# Altium schematic symbol library Connectors.SchLib: 75 symbols (part 2 of 3)
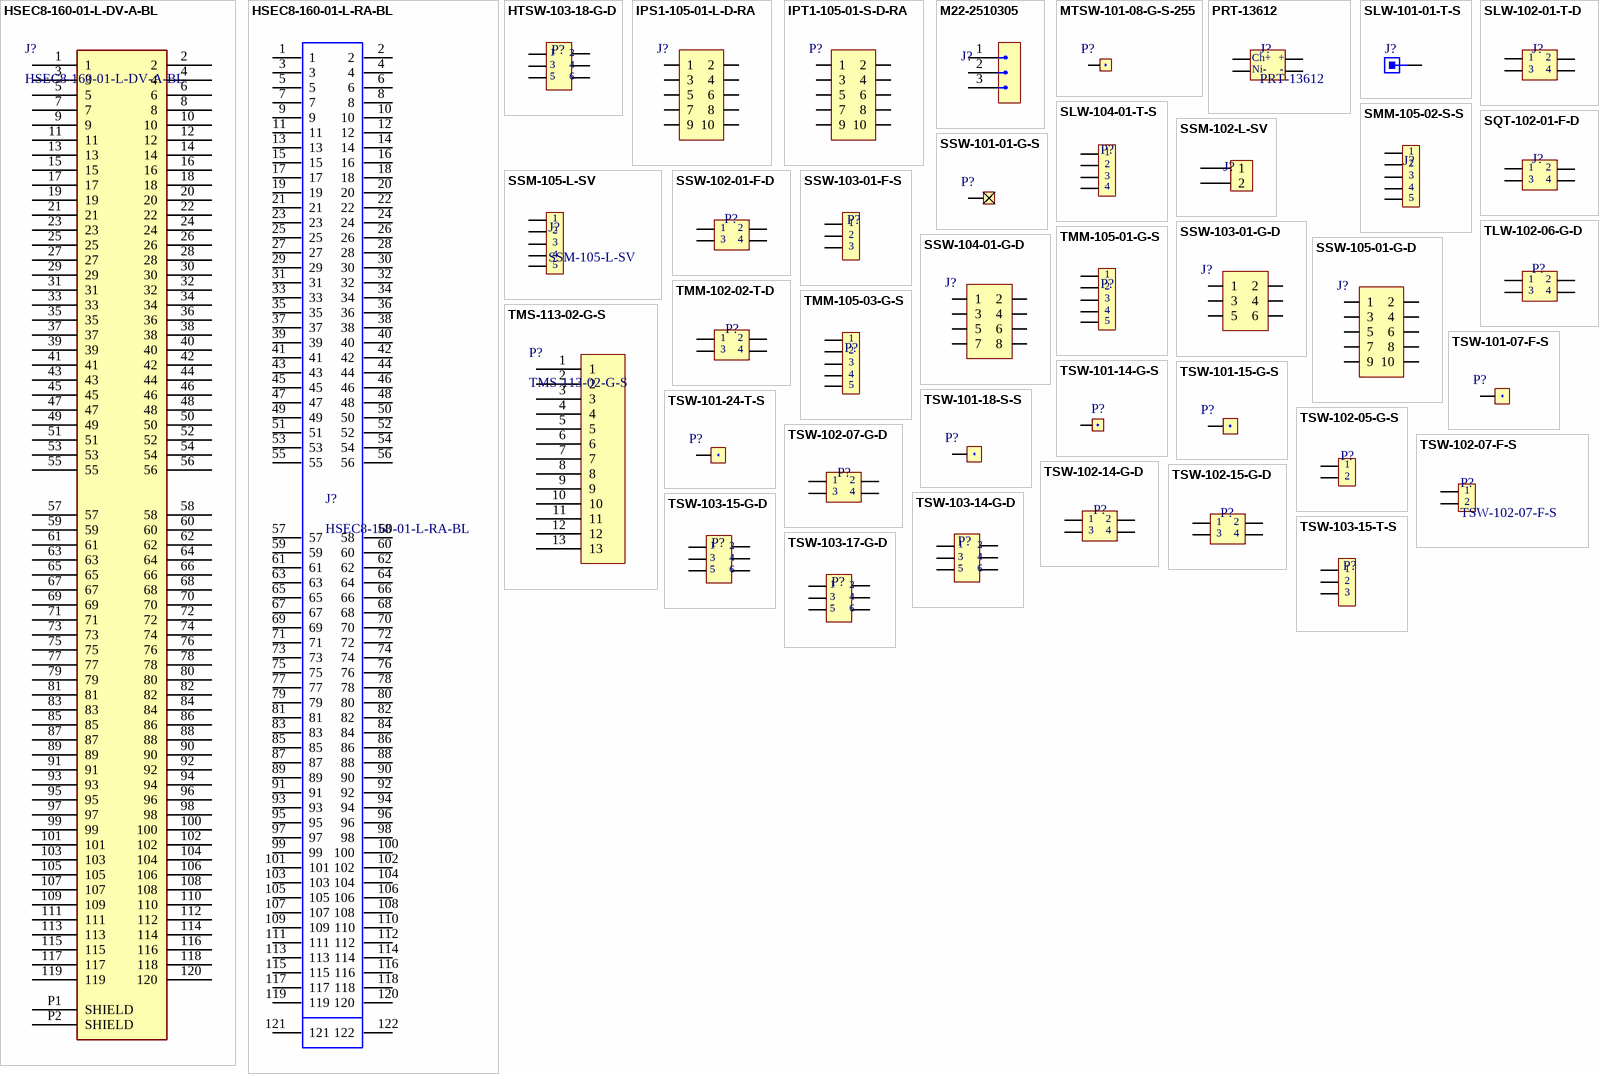
[diagram p3: symbols HSEC8-160-01-L-DV-A-BL to TSW-103-17-G-D]

## HSEC8-160-01-L-RA-BL
designator J?
Standard Card Edge Connectors 0.80 mm Edge Rate High-Speed Edge Card Connector, Vertical; Manufacturer: Samtec; Number of Contacts: 120; Pitch: 0.8mm; Supplier 1: Digi-Key; Manufacturer Part Number: HSEC8-160-01-L-RA-BL; RoHS: Yes; Category: Card Edge Connectors; Stock 1: 48; Pricing 1: 1=13.09000, 10=11.90000, 25=11.60240, 50=10.71000, 100=10.11500, 250=9.22252, 500=8.62750, 1000=7.91350, 2500=7.73500 (USD); Mount: Surface Mount; Contact Plating: Gold; Number of Rows: 2; Termination: Solder; Packaging: Bulk; Radiation Hardening: No; ComponentLink1URL: https://datasheet.ciiva.com/10927/hsec8-ra-10927470.pdf?src-supplier=Avnet; ComponentLink1Description: https://datasheet.ciiva.com/10927/hsec8-ra-10927470.pdf?src-supplier=Avnet; Supplier Part Number 1: SAM13312-ND
footprint HSEC8-160-01-L-RA-BL (CONN EDGE DUAL FMALE 120P 0.031)
pins: 1, 2, 3, 4, 5, 6, 7, 8, 9, 10, 11, 12, 13, 14, 15, 16, 17, 18, 19, 20, 21, 22, 23, 24, 25, 26, 27, 28, 29, 30, 31, 32, 33, 34, 35, 36, 37, 38, 39, 40, 41, 42, 43, 44, 45, 46, 47, 48, 49, 50, 51, 52, 53, 54, 55, 56, 57, 58, 59, 60, 61, 62, 63, 64, 65, 66, 67, 68, 69, 70, 71, 72, 73, 74, 75, 76, 77, 78, 79, 80, 81, 82, 83, 84, 85, 86, 87, 88, 89, 90, 91, 92, 93, 94, 95, 96, 97, 98, 99, 100, 101, 102, 103, 104, 105, 106, 107, 108, 109, 110, 111, 112, 113, 114, 115, 116, 117, 118, 119, 120, 121, 122

## HTSW-103-18-G-D
designator P?  (value not drawn)
SAMTEC         HTSW-103-18-G-D             Board-To-Board Connector, Vertical, HTSW Series, 6 Contacts, Header, 2.54 mm, Through Hole, 2 Rows; Number of Contacts: 6; Gender: Male; Pitch: 2.54mm; Supplier 1: Digi-Key; Manufacturer: Samtec; Manufacturer Part Number: HTSW-103-18-G-D; RoHS: Yes; Category: Headers and Wire Housings; Stock 1: 384; Pricing 1: 1=0.99000, 10=0.86700, 100=0.74800, 500=0.61200, 1000=0.54400, 5000=0.47600, 10000=0.45220 (USD); Mount: Through Hole; Contact Plating: Gold; Contact Material: Bronze; Termination: Through Hole; Number of Rows: 2; Packaging: Bulk; Radiation Hardening: No; REACH SVHC: No SVHC; ComponentLink1URL: https://datasheet.ciiva.com/10206/htsw-th-10206653.pdf?src-supplier=Avnet; ComponentLink1Description: https://datasheet.ciiva.com/10206/htsw-th-10206653.pdf?src-supplier=Avnet; Supplier Part Number 1: HTSW-103-18-G-D-ND
footprint HTSW-103-18-G-D
pins: 1, 2, 3, 4, 5, 6

## IPS1-105-01-L-D-RA
designator J?  (value not drawn)
SAMTEC         IPS1-105-01-L-D-RA             Board-To-Board Connector, Right Angle, IPS1 Series, 10 Contacts, Receptacle, 2.54 mm, Through Hole; Number of Contacts: 10; Number of Ports: 1; Max Voltage Rating (AC): 550V; Current Rating: 9A; Voltage Rating: 777V; Pitch: 2.54mm; Supplier 1: Digi-Key; Manufacturer: Samtec; Manufacturer Part Number: IPS1-105-01-L-D-RA; RoHS: Yes; Category: Connectors; Stock 1: 364; Pricing 1: 1=2.75000, 10=2.64000, 100=2.20000, 500=1.87000, 1000=1.59500, 5000=1.43000 (USD); Mount: Through Hole,Surface Mount; Number of Terminals: 10; Contact Material: Bronze; Contact Plating: Gold; Housing Material: Polymer; Min Operating Temperature: -55°C; Max Operating Temperature: 125°C; Termination: Solder; Orientation: Right Angle; Packaging: Bulk; Gender: Receptacle; Number of Rows: 2; Length: 13.08mm; Depth: 8.51mm; Radiation Hardening: No; REACH SVHC: No SVHC; ComponentLink1URL: https://datasheet.ciiva.com/25618/0900766b8114c2ed-25618027.pdf?src-supplier=RSComponents; ComponentLink1Description: https://datasheet.ciiva.com/25618/0900766b8114c2ed-25618027.pdf?src-supplier=RSComponents; ComponentLink2URL: https://datasheet.ciiva.com/9444/ipt1-9444586.pdf?src-supplier=Avnet; ComponentLink2Description: https://datasheet.ciiva.com/9444/ipt1-9444586.pdf?src-supplier=Avnet; Supplier Part Number 1: SAM9620-ND
footprint IPS1-105-01-L-D-RA
pins: 1, 2, 3, 4, 5, 6, 7, 8, 9, 10

## IPT1-105-01-S-D-RA
designator P?  (value not drawn)
CONN PLUG .100" 10POS DL PCB R/A; Manufacturer: Samtec; Number of Contacts: 10; Gender: Male; Connector Type: Male Pin; Number of Ports: 1; Max Voltage Rating (AC): 550V; Max Current Rating: 8A; Pitch: 2.54mm; Row Spacing: 0.1inch; Supplier 1: Digi-Key; Manufacturer Part Number: IPT1-105-01-S-D-RA; RoHS: Yes; Category: Connectors; Stock 1: 449; Pricing 1: 1=3.53000, 10=3.38400, 100=2.82000, 500=2.39700, 1000=2.04450, 5000=1.83300 (USD); Mount: Through Hole; Contact Material: Bronze; Contact Plating: Gold; Housing Material: Polymer; Number of Terminals: 10; Housing Color: Black; Color: Black; Min Operating Temperature: -55°C; Max Operating Temperature: 125°C; Termination: Solder; Orientation: Right Angle; Packaging: Rail/Tube; Number of Rows: 2; Number of Positions: 10; Length: 13.21mm; Depth: 10.39mm; Contact Mating Length: 0.155inch; Radiation Hardening: No; REACH SVHC: No SVHC; Lead Free: Lead Free; ComponentLink1URL: https://datasheet.ciiva.com/716/ipt1-1xx-xx-xx-d-ra-xxx-mkt-716221.pdf?src-supplier=Digi-Key; ComponentLink1Description: https://datasheet.ciiva.com/716/ipt1-1xx-xx-xx-d-ra-xxx-mkt-716221.pdf?src-supplier=Digi-Key; ComponentLink2URL: https://datasheet.ciiva.com/7997/81376-7997581.pdf?src-supplier=Element14; ComponentLink2Description: https://datasheet.ciiva.com/7997/81376-7997581.pdf?src-supplier=Element14; ComponentLink3URL: https://datasheet.ciiva.com/9444/ipt1-9444638.pdf?src-supplier=Avnet; ComponentLink3Description: https://datasheet.ciiva.com/9444/ipt1-9444638.pdf?src-supplier=Avnet; Supplier Part Number 1: SAM8101-ND
footprint IPT1-105-01-S-D-RA
pins: 1, 2, 3, 4, 5, 6, 7, 8, 9, 10

## M22-2510305
designator J?  (value not drawn)
HARWIN - M22-2510305 - Board-To-Board Connector, 2 mm, 3 Contacts, Header, M22 Series, Through Hole, 1 Rows; Number of Positions: 3; Connector Type: Male Pin; Current Rating: 1A; Voltage Rating: 650V; Contact Resistance: 20mR; Gender: Male; Pitch: 2mm; Supplier 1: Digi-Key; Manufacturer: Harwin; Manufacturer Part Number: M22-2510305; RoHS: Yes; Category: Headers and Wire Housings; Stock 1: 1905; Pricing 1: 1=0.24000, 10=0.22900, 100=0.15860, 500=0.13420, 1000=0.10980, 5000=0.09760, 10000=0.08845 (USD); Mount: Through Hole; Case/Package: SIL; Housing Material: Nylon; Color: Black; Contact Plating: Gold; Contact Material: Bronze; Housing Color: Black; Min Operating Temperature: -55°C; Max Operating Temperature: 105°C; Termination: Solder; Number of Contacts: 3; Package Quantity: 1000; Number of Rows: 1; Packaging: Bulk; Max Current Rating: 1A; Orientation: Straight; Length: 6mm; Contact Mating Length: 0.138inch; Depth: 2mm; Radiation Hardening: No; REACH SVHC: No SVHC; ComponentLink1URL: https://datasheet.ciiva.com/733/m22-251-733936.pdf?src-supplier=Digi-Key; ComponentLink1Description: https://datasheet.ciiva.com/733/m22-251-733936.pdf?src-supplier=Digi-Key; ComponentLink2URL: https://datasheet.ciiva.com/16736/m22-251-16736245.pdf?src-supplier=Avnet+Europe; ComponentLink2Description: https://datasheet.ciiva.com/16736/m22-251-16736245.pdf?src-supplier=Avnet+Europe; ComponentLink3URL: https://datasheet.ciiva.com/22660/1693770-22660551.pdf?src-supplier=Element14; ComponentLink3Description: https://datasheet.ciiva.com/22660/1693770-22660551.pdf?src-supplier=Element14; ComponentLink4URL: https://datasheet.ciiva.com/9480/m22-251-9480330.pdf?src-supplier=Avnet; ComponentLink4Description: https://datasheet.ciiva.com/9480/m22-251-9480330.pdf?src-supplier=Avnet; Supplier Part Number 1: 952-1312-ND
footprint M22-2510305 (3 Pos. Male SIL Vertical Throughboard Conn.)
pins: 1 (power), 2 (power), 3 (power)

## MTSW-101-08-G-S-255
designator P?  (value not drawn)
.100" Variable Post Height Terminal Strip; Manufacturer: Samtec; Number of Contacts: 1; Gender: Male; System: Connector; Supplier 1: Digi-Key; Manufacturer Part Number: MTSW-101-08-G-S-255; RoHS: Yes; Category: Connectors; Stock 1: 889; Pricing 1: 1=0.16000 (USD); Mount: Through Hole; Contact Plating: Gold; Contact Material: Bronze; Termination: Solder; Number of Rows: 1; Packaging: Bulk; Radiation Hardening: No; Lead Free: Lead Free; ComponentLink1URL: http://www.samtec.com/documents/webfiles/pdf/HMTSW.PDF?src-supplier=Avnet; ComponentLink1Description: http://www.samtec.com/documents/webfiles/pdf/HMTSW.PDF?src-supplier=Avnet; Supplier Part Number 1: MTSW-101-08-G-S-255-ND; Supplier 2: Mouser; Supplier 3: Avnet; Pricing 3: 1=0.08455, 10=0.07956, 30=0.07748, 50=0.07384, 100=0.07072 (USD); Supplier Part Number 2: 200-MTSW10108GS255; Supplier Part Number 3: MTSW-101-08-G-S-255
footprint MTSW-101-08-G-S-255
pins: 1

## PRT-13612
designator J?
THERMOCOUPLE CONN - PCC-SMP-K; Manufacturer: SparkFun; Supplier 1: Digi-Key; Manufacturer Part Number: PRT-13612; RoHS: No; Stock 1: 201; Pricing 1: 1=4.38000 (USD); ComponentLink1URL: https://cdn.sparkfun.com/datasheets/Prototyping/PCC-SMP-K-datasheet.pdf?src-supplier=Digi-Key; ComponentLink1Description: https://cdn.sparkfun.com/datasheets/Prototyping/PCC-SMP-K-datasheet.pdf?src-supplier=Digi-Key; Supplier Part Number 1: 1568-1306-ND; Supplier 2: Mouser; Stock 2: 10; Pricing 2: 1=4.38000, 5=4.38000 (USD); Supplier 3: Arrow; Pricing 3: 1=4.11100 (USD); Supplier Part Number 2: 474-PRT-13612; Supplier Part Number 3: PRT-13612
footprint PRT-13612 (THERMOCOUPLE CONN - PCC-SMP-K)
pins: 1, 2, 3, 4
text: Ch+; +; Ni-; -

## SLW-101-01-T-S
designator J?  (value not drawn)
CONN RCPT .100" 1POS SNGL TIN low profile 2.92 mm SAMTEC; Connector Type: Receptacle; Number of Positions: 1; Voltage Rating (AC): 550V; System: Connector; Manufacturer: Samtec; Manufacturer Part Number: SLW-101-01-T-S; RoHS: Yes; Category: Connectors; Stock 1: 1988; Pricing 1: 1=0,16000, 10=0,15300, 25=0,11440, 50=0,09800, 100=0,09470, 250=0,08160, 500=0,07834 (USD); Mount: Through Hole; Housing Material: Plastic; Color: Black; Contact Plating: Tin; Contact Material: Bronze; Housing Color: Black; Number of Rows: 1; Packaging: Bulk; Termination: Solder; Number of Contacts: 1; Gender: Receptacle; Package Quantity: 1; Length: 2.54mm; Height: 4.57mm; Width: 2.54mm; Radiation Hardening: No; Lead Free: Lead Free; REACH SVHC: No SVHC; ComponentLink1URL: https://datasheet.ciiva.com/413/slw-mkt-413333.pdf?src-supplier=Digi-Key; ComponentLink1Description: https://datasheet.ciiva.com/413/slw-mkt-413333.pdf?src-supplier=Digi-Key; Supplier 1: Digi-Key; Supplier 2: Mouser; Supplier 3: Arrow; Termination post length: 2.92 mm; Supplier Part Number 2: 200-SLW10101TS; Supplier Part Number 3: SLW-101-01-T-S; Supplier Part Number 1: SAM1093-01-ND
footprint SLW-101-01-T-S (Headers & Wire Housings .100" Tiger Buy Low Profile Socket Strip)
pins: 1

## SLW-102-01-T-D
designator J?  (value not drawn)
SOCKET, 2.54MM, 2X2 POSITION; Product Range:SLW Series; Contact Termination Type:Through Hole; Gender:Receptacle; No. of Contacts:4; Pitch Spacing:2.54mm; Contact Plating:Tin Plated Contacts; Contact Material:Phosphor Bronze ;RoHS Compliant: Yes; Manufacturer: Samtec; Number of Contacts: 4; Contact Resistance: 10mR; Max Current Rating: 7.1A; Max Voltage Rating (AC): 550V; Row Spacing: 0.1inch; Supplier 1: Digi-Key; Manufacturer Part Number: SLW-102-01-T-D; RoHS: Yes; Category: Connectors; Stock 1: 280; Pricing 1: 1=0.42000, 10=0.39200, 25=0.35240, 50=0.31340, 100=0.30030, 250=0.27416, 500=0.26112 (USD); Mount: Through Hole; Contact Plating: Tin; Housing Color: Black; Housing Material: Polyester; Contact Material: Bronze; Color: Black; Min Operating Temperature: -55°C; Max Operating Temperature: 105°C; Termination: Solder; Number of Rows: 2; Orientation: Straight; Connector Type: Receptacle; Number of Positions: 4; Gender: Receptacle; Package Quantity: 1; Packaging: Bulk; Voltage Rating (AC): 550V; Length: 5.08mm; Pitch: 2.54mm; Width: 4.95mm; Depth: 4.95mm; Radiation Hardening: No; Lead Free: Lead Free; REACH SVHC: No SVHC; ComponentLink1URL: https://datasheet.ciiva.com/413/slw-mkt-413382.pdf?src-supplier=Digi-Key; ComponentLink1Description: https://datasheet.ciiva.com/413/slw-mkt-413382.pdf?src-supplier=Digi-Key; Supplier Part Number 1: SAM1092-02-ND; Supplier 2: Arrow; Stock 2: 10; Pricing 2: 1=0.27850, 10=0.24770, 25=0.24520, 50=0.24290, 100=0.23130, 250=0.22030, 500=0.20160 (USD); Supplier 3: Mouser; Stock 3: 800; Pricing 3: 1=0.43000, 10=0.32600, 100=0.28500, 500=0.27200, 1000=0.22400, 2500=0.19700 (USD); Supplier Part Number 2: SLW-102-01-T-D; Supplier Part Number 3: 200-SLW10201TD
footprint SLW-102-01-T-D
pins: 1, 2, 3, 4

## SLW-104-01-T-S
designator P?  (value not drawn)
Conn Socket Strip SKT 4 POS 2.54mm Solder ST Thru-Hole; Manufacturer: Samtec; Max Current Rating: 7.1A; Connector Type: Receptacle; Number of Positions: 4; Max Voltage Rating (AC): 550V; Contact Resistance: 10mR; System: Connector; Supplier 1: Digi-Key; Manufacturer Part Number: SLW-104-01-T-S; RoHS: Yes; Category: Connectors; Stock 1: 1989; Pricing 1: 1=0.42000, 10=0.39200, 25=0.35240, 50=0.31340, 100=0.30030, 250=0.27416, 500=0.26112 (USD); Mount: Through Hole; Contact Plating: Tin; Contact Material: Bronze; Color: Black; Housing Color: Black; Housing Material: Polyester; Min Operating Temperature: -55°C; Max Operating Temperature: 105°C; Packaging: Bulk; Number of Rows: 1; Package Quantity: 1; Termination: Solder; Number of Contacts: 4; Gender: Receptacle; Orientation: Vertical; Voltage Rating (AC): 550V; Length: 10.16mm; Pitch: 2.54mm; Depth: 2.54mm; Width: 2.54mm; Radiation Hardening: No; Lead Free: Lead Free; REACH SVHC: No SVHC; ComponentLink1URL: https://datasheet.ciiva.com/413/slw-mkt-413353.pdf?src-supplier=Digi-Key; ComponentLink1Description: https://datasheet.ciiva.com/413/slw-mkt-413353.pdf?src-supplier=Digi-Key; Supplier Part Number 1: SAM1093-04-ND; Supplier 2: Arrow; Stock 2: 1676; Pricing 2: 1=0.36960, 10=0.34920, 25=0.32070, 50=0.28470, 100=0.26730, 250=0.24950, 500=0.20530, 1=0.23020, 6250=0.19450, 12500=0.15650, 62500=0.13580, 125000=0.12760 (USD); Supplier 3: Mouser; Stock 3: 1832; Pricing 3: 1=0.43000, 10=0.32600, 100=0.28500, 500=0.27200, 1000=0.22400, 2500=0.19700 (USD); Supplier Part Number 2: SLW-104-01-T-S; Supplier Part Number 3: 200-SLW10401TS
footprint SLW-104-01-T-S
pins: 1, 2, 3, 4

## SMM-105-02-S-S
designator J?  (value not drawn)
Conn Socket Strip SKT 5 POS 2mm Solder ST SMD Automotive Tube; Manufacturer: Samtec; Number of Contacts: 5; Gender: Female; Max Voltage Rating (AC): 350V; Max Current Rating: 3.9A; Connector Type: Receptacle,Socket; Contact Resistance: 10mR; Supplier 1: Digi-Key; Manufacturer Part Number: SMM-105-02-S-S; RoHS: Yes; Category: Connectors; Stock 1: 1109; Pricing 1: 1=1.96000, 10=1.77500, 25=1.66640, 50=1.59400, 100=1.52150, 250=1.37656, 500=1.26788 (USD); Mount: Surface Mount; Contact Plating: Gold; Contact Material: Copper; Housing Color: Black; Color: Black; Housing Material: Polymer; Min Operating Temperature: -55°C; Max Operating Temperature: 125°C; Termination: Solder; Number of Rows: 1; Packaging: Bulk; Orientation: Straight; Number of Positions: 5; Length: 10mm; Pitch: 2mm; Depth: 2mm; Width: 2mm; Lead Free: Lead Free; ComponentLink1URL: https://datasheet.ciiva.com/10356/smm-10356031.pdf?src-supplier=Avnet; ComponentLink1Description: https://datasheet.ciiva.com/10356/smm-10356031.pdf?src-supplier=Avnet; ComponentLink2URL: https://datasheet.ciiva.com/747/smm-1xx-xx-xx-s-xx-x-xx-xx-mkt-747728.pdf?src-supplier=Digi-Key; ComponentLink2Description: https://datasheet.ciiva.com/747/smm-1xx-xx-xx-s-xx-x-xx-xx-mkt-747728.pdf?src-supplier=Digi-Key; Supplier Part Number 1: SAM1244-05-ND; Supplier 2: Avnet; Pricing 2: 1=2.17886, 10=2.05020, 30=1.99660, 50=1.90280, 100=1.82240 (USD); Supplier 3: Arrow; Supplier Part Number 2: SMM-105-02-S-S; Supplier Part Number 3: SMM-105-02-S-S
footprint SMM-105-02-S-S
pins: 1, 1, 1, 2, 2
text: 3; 4

## SQT-102-01-F-D
designator J?  (value not drawn)
Conn Socket Strip SKT 4 POS 2mm Solder ST Thru-Hole; Manufacturer: Samtec; Number of Contacts: 4; Gender: Female; Voltage Rating (AC): 450V; Max Current Rating: 5.5A; Contact Resistance: 10mR; Supplier 1: Digi-Key; Manufacturer Part Number: SQT-102-01-F-D; RoHS: Yes; Category: Headers and Wire Housings; Stock 1: 575; Pricing 1: 1=1.22000, 10=1.07100, 100=0.92400, 500=0.75600, 1000=0.67200, 5000=0.58800, 10000=0.55860 (USD); Contact Plating: Gold; Contact Material: Bronze; Housing Color: Black; Housing Material: Polymer; Min Operating Temperature: -55°C; Max Operating Temperature: 125°C; Termination: Solder; Number of Rows: 2; Packaging: Bulk; Orientation: Straight; Max Voltage Rating (AC): 450V; Length: 4.3mm; Pitch: 2mm; Depth: 4mm; Radiation Hardening: No; Lead Free: Lead Free; ComponentLink1URL: http://components.arrow.com/part/dataview/0323_04808073?src-supplier=Arrow+Europe; ComponentLink1Description: http://components.arrow.com/part/dataview/0323_04808073?src-supplier=Arrow+Europe; ComponentLink2URL: http://www.samtec.com/documents/webfiles/pdf/SQT_TH.PDF?src-supplier=Avnet+Europe; ComponentLink2Description: http://www.samtec.com/documents/webfiles/pdf/SQT_TH.PDF?src-supplier=Avnet+Europe; ComponentLink3URL: http://suddendocs.samtec.com/catalog_english/sqt_th.pdf?src-supplier=Digi-Key; ComponentLink3Description: http://suddendocs.samtec.com/catalog_english/sqt_th.pdf?src-supplier=Digi-Key; ComponentLink4URL: http://www.samtec.com/documents/webfiles/pdf/SQT_TH.PDF?src-supplier=Avnet; ComponentLink4Description: http://www.samtec.com/documents/webfiles/pdf/SQT_TH.PDF?src-supplier=Avnet; Supplier Part Number 1: SAM9978-ND; Supplier 2: Mouser; Stock 2: 237; Pricing 2: 1=1.22000, 10=0.96500, 100=0.84000, 500=0.75500, 1000=0.67200, 2500=0.58700 (USD); Supplier 3: Arrow; Pricing 3: 1=1.22000, 6250=0.86360, 12500=0.67030, 62500=0.43680, 125000=0.41210 (USD); Supplier Part Number 2: 200-SQT10201FD; Supplier Part Number 3: SQT-102-01-F-D
footprint SQT-102-01-F-D
pins: 1, 2, 3, 4

## SSM-102-L-SV
designator J?  (value not drawn)
SAMTEC - SSM-102-L-SV - RECEPTACLE, 2.54MM, VERT, 2WAY; Number of Contacts: 2; Contact Resistance: 10mR; Max Voltage Rating (AC): 475V; Max Current Rating: 6.9A; Connector Type: Receptacle,Socket; Supplier 1: Digi-Key; Manufacturer: Samtec; Manufacturer Part Number: SSM-102-L-SV; RoHS: Yes; Category: Headers and Wire Housings; Stock 1: 51; Pricing 1: 1=0.56000, 10=0.52100, 25=0.46920, 50=0.41700, 100=0.39960, 250=0.36488, 500=0.34752 (USD); Mount: Surface Mount; Contact Plating: Gold; Contact Material: Bronze; Housing Material: Polymer; Housing Color: Black; Color: Black; Min Operating Temperature: -55°C; Max Operating Temperature: 125°C; Termination: Solder; Number of Rows: 1; Packaging: Bulk; Gender: Receptacle; Orientation: Straight; Current Rating: 6.9A; Number of Positions: 2; Voltage Rating: 475V; Voltage Rating (AC): 475V; Length: 5.08mm; Pitch: 2.54mm; Depth: 2.54mm; Lead Pitch: 2.54mm; Radiation Hardening: No; Lead Free: Lead Free; REACH SVHC: No SVHC; ComponentLink1URL: https://datasheet.ciiva.com/25617/0900766b811594ab-25617394.pdf?src-supplier=RSComponents; ComponentLink1Description: https://datasheet.ciiva.com/25617/0900766b811594ab-25617394.pdf?src-supplier=RSComponents; ComponentLink2URL: https://datasheet.ciiva.com/746/ssm-1xx-xxx-xx-xx-xx-x-xx-xx-mkt-746741.pdf?src-supplier=Digi-Key; ComponentLink2Description: https://datasheet.ciiva.com/746/ssm-1xx-xxx-xx-xx-xx-x-xx-xx-mkt-746741.pdf?src-supplier=Digi-Key; ComponentLink3URL: https://datasheet.ciiva.com/22677/81944-22677814.pdf?src-supplier=Element14; ComponentLink3Description: https://datasheet.ciiva.com/22677/81944-22677814.pdf?src-supplier=Element14; Supplier Part Number 1: SAM1148-02-ND; Supplier 2: Arrow; Stock 2: 1; Pricing 2: 1=0.53350, 1=0.47880, 12500=0.42240, 25000=0.36600, 125000=0.31770, 250000=0.29990 (USD); Supplier 3: Mouser; Stock 3: 175; Pricing 3: 1=0.92000, 10=0.73100, 100=0.63600, 500=0.57200, 1000=0.50800, 2500=0.44500 (USD); Supplier Part Number 2: SSM-102-L-SV; Supplier Part Number 3: 200-SSM102LSV
footprint SSM-102-L-SV
pins: 1, 2

## SSM-105-L-SV
designator J?
CONN RCPT 5POS 0.1 GOLD SMD; Manufacturer: Samtec; Number of Contacts: 5; Gender: Receptacle; Contact Resistance: 10mR; Max Voltage Rating (AC): 475V; Max Current Rating: 6.9A; Connector Type: Receptacle,Socket; Pitch: 2.54mm; Supplier 1: Mouser; Manufacturer Part Number: SSM-105-L-SV; RoHS: Yes; Category: Headers and Wire Housings; Stock 1: 175; Pricing 1: 1=1.46000, 10=1.19000, 100=1.06000, 250=0.99200, 500=0.85700, 1000=0.74600 (USD); Mount: Surface Mount; Contact Plating: Gold; Contact Material: Bronze; Housing Material: Polymer; Housing Color: Black; Color: Black; Min Operating Temperature: -55°C; Max Operating Temperature: 125°C; Number of Rows: 1; Termination: Solder; Packaging: Bulk; Orientation: Straight; Number of Positions: 5; Length: 12.7mm; Depth: 2.54mm; Width: 2.54mm; Radiation Hardening: No; Lead Free: Lead Free; REACH SVHC: No SVHC; ComponentLink1URL: https://datasheet.ciiva.com/746/ssm-1xx-xxx-xx-xx-xx-x-xx-xx-mkt-746738.pdf?src-supplier=Digi-Key; ComponentLink1Description: https://datasheet.ciiva.com/746/ssm-1xx-xxx-xx-xx-xx-x-xx-xx-mkt-746738.pdf?src-supplier=Digi-Key; Supplier Part Number 1: 200-SSM105LSV; Supplier 2: Digi-Key; Pricing 2: 1=1.26000, 10=1.10800, 25=1.04240, 50=0.99920, 100=0.95570, 250=0.86880, 500=0.78192 (USD); Supplier 3: Avnet; Pricing 3: 1=1.15447, 10=1.08630, 30=1.05790, 50=1.00820, 100=0.96560 (USD); Supplier Part Number 2: SAM1148-05-ND; Supplier Part Number 3: SSM-105-L-SV
footprint SSM-105-L-SV
pins: 1, 2, 3, 4, 5

## SSW-101-01-G-S
designator P?  (value not drawn)
CLEAR GLOVE BX 100 M - More Details; Manufacturer: Samtec; Connector Type: Receptacle,Socket; Number of Positions: 1; Gender: Receptacle; Max Current Rating: 6.9A; Max Voltage Rating (AC): 550V; Mating Cycles: 100; Contact Resistance: 10mR; System: Connector; Supplier 1: Digi-Key; Manufacturer Part Number: SSW-101-01-G-S; RoHS: Yes; Category: Connectors; Stock 1: 10228; Pricing 1: 1=0.25000, 10=0.23600, 25=0.20120, 50=0.17600, 100=0.16350, 250=0.14464, 500=0.13834 (USD); Mount: Through Hole; Contact Plating: Gold; Contact Material: Bronze; Color: Black; Housing Material: Polymer; Housing Color: Black; Min Operating Temperature: -55°C; Max Operating Temperature: 125°C; Packaging: Bulk; Termination: Solder; Number of Contacts: 1; Number of Rows: 1; Orientation: Straight; Length: 3.05mm; Width: 2.41mm; Depth: 2.41mm; Radiation Hardening: No; Lead Free: Lead Free; REACH SVHC: No SVHC; ComponentLink1URL: https://datasheet.ciiva.com/749/ssw-1xx-xx-xxx-x-xx-xxx-xx-mkt-749879.pdf?src-supplier=Digi-Key; ComponentLink1Description: https://datasheet.ciiva.com/749/ssw-1xx-xx-xxx-x-xx-xxx-xx-mkt-749879.pdf?src-supplier=Digi-Key; Supplier Part Number 1: SAM1209-01-ND; Supplier 2: Mouser; Stock 2: 641; Pricing 2: 1=0.62000, 10=0.47000, 100=0.41100, 500=0.39200, 1000=0.32300, 2500=0.28400 (USD); Supplier 3: Farnell; Stock 3: 441; Pricing 3: 10=0.32300, 100=0.26800, 500=0.24000, 1000=0.22100, 2500=0.20700, 5000=0.19600 (GBP); Supplier Part Number 2: 200-SSW10101GS; Supplier Part Number 3: 2308467
footprint SAM1209-01-ND
pins: 1

## SSW-102-01-F-D
designator P?  (value not drawn)
Conn Socket Strip SKT 4 POS 2.54mm Solder ST Thru-Hole; Manufacturer: Samtec; Gender: Female; Mating Cycles: 100; Max Voltage Rating (AC): 550V; Number of Contacts: 4; Max Current Rating: 6.9A; Contact Resistance: 10mR; Supplier 1: Digi-Key; Manufacturer Part Number: SSW-102-01-F-D; RoHS: Yes; Category: Headers and Wire Housings; Stock 1: 1603; Pricing 1: 1=0.81000, 10=0.71700, 100=0.61820, 500=0.50580, 1000=0.44960, 5000=0.39340, 10000=0.37373 (USD); Color: Black; Housing Color: Black; Housing Material: Polymer; Contact Plating: Gold; Contact Material: Bronze; Min Operating Temperature: -55°C; Max Operating Temperature: 125°C; Termination: Solder; Orientation: Straight; Number of Rows: 2; Packaging: Bulk; Length: 5.59mm; Pitch: 2.54mm; Depth: 4.95mm; Radiation Hardening: No; ComponentLink1URL: http://components.arrow.com/part/dataview/0323_01326682?src-supplier=Arrow+Europe; ComponentLink1Description: http://components.arrow.com/part/dataview/0323_01326682?src-supplier=Arrow+Europe; ComponentLink2URL: http://suddendocs.samtec.com/catalog_english/ssw_th.pdf?src-supplier=Digi-Key; ComponentLink2Description: http://suddendocs.samtec.com/catalog_english/ssw_th.pdf?src-supplier=Digi-Key; ComponentLink3URL: http://www.farnell.com/datasheets/2550265.pdf?src-supplier=Newark; ComponentLink3Description: http://www.farnell.com/datasheets/2550265.pdf?src-supplier=Newark; ComponentLink4URL: ftp://ftp.samtec.com/webfiles/PDF/SSQ_TH.PDF?src-supplier=Avnet; ComponentLink4Description: ftp://ftp.samtec.com/webfiles/PDF/SSQ_TH.PDF?src-supplier=Avnet; ComponentLink5URL: ftp://ftp.samtec.com/webfiles/PDF/SSQ_TH.PDF?src-supplier=Avnet+Europe; ComponentLink5Description: ftp://ftp.samtec.com/webfiles/PDF/SSQ_TH.PDF?src-supplier=Avnet+Europe; Supplier Part Number 1: SAM10013-ND; Supplier 2: Arrow; Stock 2: 85; Pricing 2: 1=0.64380, 10=0.56910, 100=0.54840, 1=0.81000, 6250=0.54660, 12500=0.41690, 62500=0.29280, 125000=0.27630 (USD); Supplier 3: Mouser; Stock 3: 1906; Pricing 3: 1=0.81000, 10=0.64600, 100=0.56200, 500=0.50500, 1000=0.44900, 2500=0.39300 (USD); Supplier Part Number 2: SSW-102-01-F-D; Supplier Part Number 3: 200-SSW10201FD
footprint SAM10013-ND
pins: 1, 2, 3, 4

## SSW-103-01-F-S
designator P?  (value not drawn)
CONN RCPT .100" 3POS SNGL GOLD; Manufacturer: Samtec; Max Current Rating: 6.9A; Contact Resistance: 10mR; Gender: Female; Mating Cycles: 100; Max Voltage Rating (AC): 550V; Number of Contacts: 3; Pitch: 2.54mm; Supplier 1: Digi-Key; Manufacturer Part Number: SSW-103-01-F-S; RoHS: Yes; Category: Headers and Wire Housings; Stock 1: 244; Pricing 1: 1=0.66000, 10=0.61800, 100=0.47380, 500=0.41200, 1000=0.33990, 5000=0.29870, 10000=0.27810 (USD); Contact Plating: Gold; Contact Material: Bronze; Color: Black; Housing Color: Black; Housing Material: Polymer; Min Operating Temperature: -55°C; Max Operating Temperature: 125°C; Packaging: Bulk; Number of Rows: 1; Orientation: Straight; Termination: Solder; Length: 8.13mm; Depth: 2.41mm; Radiation Hardening: No; ComponentLink1URL: http://components.arrow.com/part/dataview/0323_03816260?src-supplier=Arrow+Europe; ComponentLink1Description: http://components.arrow.com/part/dataview/0323_03816260?src-supplier=Arrow+Europe; ComponentLink2URL: ftp://ftp.samtec.com/webfiles/PDF/SSQ_TH.PDF?src-supplier=Avnet; ComponentLink2Description: ftp://ftp.samtec.com/webfiles/PDF/SSQ_TH.PDF?src-supplier=Avnet; ComponentLink3URL: ftp://ftp.samtec.com/webfiles/PDF/SSQ_TH.PDF?src-supplier=Avnet+Europe; ComponentLink3Description: ftp://ftp.samtec.com/webfiles/PDF/SSQ_TH.PDF?src-supplier=Avnet+Europe; ComponentLink4URL: http://suddendocs.samtec.com/catalog_english/ssw_th.pdf?src-supplier=Digi-Key; ComponentLink4Description: http://suddendocs.samtec.com/catalog_english/ssw_th.pdf?src-supplier=Digi-Key; ComponentLink5URL: http://components.arrow.com/part/dataview/4842127S5691646N1004?src-supplier=Arrow; ComponentLink5Description: http://components.arrow.com/part/dataview/4842127S5691646N1004?src-supplier=Arrow; Supplier Part Number 1: SAM11930-ND; Supplier 2: Arrow; Stock 2: 10; Pricing 2: 1=0.42610, 10=0.37560, 100=0.35070, 500=0.33630, 1000=0.30570, 1=0.65500, 8334=0.43540, 16667=0.32730, 83334=0.21480, 166667=0.20480 (USD); Supplier 3: Mouser; Stock 3: 648; Pricing 3: 1=0.65000, 10=0.49400, 100=0.43200, 500=0.41200, 1000=0.33900, 2500=0.29800 (USD); Supplier Part Number 2: SSW-103-01-F-S; Supplier Part Number 3: 200-SSW10301FS
footprint SAM11930-ND
pins: 1, 2, 2

## SSW-103-01-G-D
designator J?  (value not drawn)
Conn Socket Strip SKT 6 POS 2.54mm Solder ST Thru-Hole; Manufacturer: Samtec; Number of Contacts: 6; Gender: Receptacle; Connector Type: Receptacle,Socket; Contact Resistance: 10mR; Max Current Rating: 6.9A; Max Voltage Rating (AC): 550V; Mating Cycles: 100; Row Spacing: 0.1inch; Supplier 1: Digi-Key; Manufacturer Part Number: SSW-103-01-G-D; RoHS: Yes; Category: Headers and Wire Housings; Stock 1: 1397; Pricing 1: 1=0.93000, 10=0.82100, 25=0.77240, 50=0.74020, 100=0.70800, 250=0.64368, 500=0.57932 (USD); Mount: Through Hole; Contact Plating: Gold; Contact Material: Bronze; Color: Black; Housing Color: Black; Housing Material: Polymer; Min Operating Temperature: -55°C; Max Operating Temperature: 125°C; Number of Rows: 2; Termination: Solder; Packaging: Bulk; Number of Positions: 6; Orientation: Vertical; Current Rating: 6.9A; Voltage Rating: 550V; Length: 8.13mm; Pitch: 2.54mm; Depth: 4.95mm; Radiation Hardening: No; Lead Free: Lead Free; REACH SVHC: No SVHC; ComponentLink1URL: https://datasheet.ciiva.com/25617/0900766b8115c03d-25617399.pdf?src-supplier=RSComponents; ComponentLink1Description: https://datasheet.ciiva.com/25617/0900766b8115c03d-25617399.pdf?src-supplier=RSComponents; ComponentLink2URL: https://datasheet.ciiva.com/22677/82032-22677622.pdf?src-supplier=Element14; ComponentLink2Description: https://datasheet.ciiva.com/22677/82032-22677622.pdf?src-supplier=Element14; ComponentLink3URL: https://datasheet.ciiva.com/749/ssw-1xx-xx-xxx-x-xx-xxx-xx-mkt-749828.pdf?src-supplier=Digi-Key; ComponentLink3Description: https://datasheet.ciiva.com/749/ssw-1xx-xx-xxx-x-xx-xxx-xx-mkt-749828.pdf?src-supplier=Digi-Key; Supplier Part Number 1: SAM1208-03-ND; Supplier 2: Arrow; Stock 2: 1; Pricing 2: 1=0.94640, 1=0.93000, 4167=0.71590, 8334=0.59720, 41667=0.52200, 83334=0.49330 (USD); Supplier 3: Mouser; Stock 3: 388; Pricing 3: 1=1.35000, 10=1.10000, 100=0.98200, 250=0.91700, 500=0.79200, 1000=0.69000 (USD); Supplier Part Number 2: SSW-103-01-G-D; Supplier Part Number 3: 200-SSW10301GD
footprint SSW-103-01-G-D
pins: 1, 2, 3, 4, 5, 6

## SSW-104-01-G-D
designator J?  (value not drawn)
Conn Socket Strip SKT 8 POS 2.54mm Solder ST Thru-Hole; Manufacturer: Samtec; Number of Contacts: 8; Max Current Rating: 6.9A; Contact Resistance: 10mR; Max Voltage Rating (AC): 550V; Gender: Receptacle; Connector Type: Receptacle,Socket; Mating Cycles: 100; Row Spacing: 0.1inch; Supplier 1: Digi-Key; Manufacturer Part Number: SSW-104-01-G-D; RoHS: Yes; Category: Headers and Wire Housings; Stock 1: 1152; Pricing 1: 1=1.24000, 10=1.09400, 25=1.03000, 50=0.98700, 100=0.94410, 250=0.85824, 500=0.77242 (USD); Mount: Through Hole; Contact Plating: Gold; Contact Material: Bronze; Color: Black; Housing Color: Black; Housing Material: Polymer; Min Operating Temperature: -55°C; Max Operating Temperature: 125°C; Number of Rows: 2; Termination: Solder; Packaging: Bulk; Orientation: Vertical; Number of Positions: 8; Current Rating: 6.9A; Voltage Rating: 550V; Length: 10.67mm; Pitch: 2.54mm; Depth: 4.95mm; Radiation Hardening: No; Lead Free: Lead Free; REACH SVHC: No SVHC; ComponentLink1URL: https://datasheet.ciiva.com/25617/0900766b8115c03d-25617355.pdf?src-supplier=RSComponents; ComponentLink1Description: https://datasheet.ciiva.com/25617/0900766b8115c03d-25617355.pdf?src-supplier=RSComponents; ComponentLink2URL: https://datasheet.ciiva.com/22677/82032-22677624.pdf?src-supplier=Element14; ComponentLink2Description: https://datasheet.ciiva.com/22677/82032-22677624.pdf?src-supplier=Element14; ComponentLink3URL: https://datasheet.ciiva.com/749/ssw-1xx-xx-xxx-x-xx-xxx-xx-mkt-749827.pdf?src-supplier=Digi-Key; ComponentLink3Description: https://datasheet.ciiva.com/749/ssw-1xx-xx-xxx-x-xx-xxx-xx-mkt-749827.pdf?src-supplier=Digi-Key; Supplier Part Number 1: SAM1208-04-ND
footprint SSW-104-01-G-D
pins: 1, 2, 3, 4, 5, 6, 7, 8

## SSW-105-01-G-D
designator J?  (value not drawn)
Conn Socket Strip SKT 10 POS 2.54mm Solder ST Thru-Hole; Manufacturer: Samtec; Number of Contacts: 10; Gender: Receptacle; Connector Type: Receptacle,Socket; Mating Cycles: 100; Max Current Rating: 6.9A; Max Voltage Rating (AC): 550V; Contact Resistance: 10mR; Row Spacing: 0.1inch; Supplier 1: Digi-Key; Manufacturer Part Number: SSW-105-01-G-D; RoHS: Yes; Category: Headers and Wire Housings; Stock 1: 1963; Pricing 1: 1=1.45000, 10=1.31400, 25=1.23360, 50=1.18000, 100=1.12640, 250=1.01916, 500=0.93870 (USD); Mount: Through Hole; Contact Plating: Gold; Color: Black; Contact Material: Bronze; Housing Material: Polymer; Housing Color: Black; Min Operating Temperature: -55°C; Max Operating Temperature: 125°C; Number of Rows: 2; Termination: Solder; Packaging: Bulk; Number of Positions: 10; Orientation: Straight; Current Rating: 6.9A; Voltage Rating: 550V; Length: 13.21mm; Pitch: 2.54mm; Depth: 4.95mm; Lead Pitch: 2.54mm; Radiation Hardening: No; REACH SVHC: No SVHC; Lead Free: Lead Free; ComponentLink1URL: https://datasheet.ciiva.com/25617/0900766b8115c03d-25617425.pdf?src-supplier=RSComponents; ComponentLink1Description: https://datasheet.ciiva.com/25617/0900766b8115c03d-25617425.pdf?src-supplier=RSComponents; ComponentLink2URL: https://datasheet.ciiva.com/749/ssw-1xx-xx-xxx-x-xx-xxx-xx-mkt-749826.pdf?src-supplier=Digi-Key; ComponentLink2Description: https://datasheet.ciiva.com/749/ssw-1xx-xx-xxx-x-xx-xxx-xx-mkt-749826.pdf?src-supplier=Digi-Key; ComponentLink3URL: https://datasheet.ciiva.com/22677/82032-22677627.pdf?src-supplier=Element14; ComponentLink3Description: https://datasheet.ciiva.com/22677/82032-22677627.pdf?src-supplier=Element14; Supplier Part Number 1: SAM1208-05-ND
footprint SSW-105-01-G-D
pins: 1, 2, 3, 4, 5, 6, 7, 8, 9, 10

## TLW-102-06-G-D
designator P?  (value not drawn)
LOW PROFILE .025 SQ STRIPS; Manufacturer: Samtec; Gender: Male; Number of Contacts: 4; Connector Type: Male Pin; Pitch: 2.54mm; Row Spacing: 0.1inch; Supplier 1: Digi-Key; Manufacturer Part Number: TLW-102-06-G-D; RoHS: Yes; Category: Connectors; Stock 1: 730; Pricing 1: 1=0.80000, 10=0.70700, 25=0.66560, 50=0.63780, 100=0.61010, 250=0.55468, 500=0.49920 (USD); Mount: Through Hole; Contact Plating: Gold; Housing Material: Polymer; Color: Black; Contact Material: Bronze; Housing Color: Black; Min Operating Temperature: -55°C; Max Operating Temperature: 105°C; Termination: Solder; Packaging: Bulk; Number of Rows: 2; Number of Positions: 4; Package Quantity: 1; Orientation: Straight; Length: 5.08mm; Width: 5.03mm; Contact Mating Length: 0.105inch; Depth: 5.03mm; Radiation Hardening: No; Lead Free: Lead Free; ComponentLink1URL: http://components.arrow.com/part/dataview/2690782S2981018N1004?src-supplier=Arrow; ComponentLink1Description: http://components.arrow.com/part/dataview/2690782S2981018N1004?src-supplier=Arrow; ComponentLink2URL: http://suddendocs.samtec.com/prints/tlw-mkt.pdf?src-supplier=Digi-Key; ComponentLink2Description: http://suddendocs.samtec.com/prints/tlw-mkt.pdf?src-supplier=Digi-Key; ComponentLink3URL: http://www.samtec.com/ftppub/pdf/mtlw_th.pdf?src-supplier=Avnet; ComponentLink3Description: http://www.samtec.com/ftppub/pdf/mtlw_th.pdf?src-supplier=Avnet; Supplier Part Number 1: SAM1096-02-ND; Supplier 2: Arrow; Stock 2: 35; Pricing 2: 1=0.44410 (USD); Supplier 3: Mouser; Stock 3: 527; Pricing 3: 1=0.74000, 10=0.58800, 100=0.51200, 500=0.46000, 1000=0.40900, 2500=0.35800 (USD); Supplier Part Number 2: TLW-102-06-G-D; Supplier Part Number 3: 200-TLW10206GD
footprint TLW-102-06-G-D
pins: 1, 2, 3, 4

## TMM-102-02-T-D
designator P?  (value not drawn)
SAMTEC         TMM-102-02-T-D             Board-To-Board Connector, TMM Series, 4 Contacts, Header, 2 mm, Through Hole, 2 Rows; Gender: Male; Number of Contacts: 4; Pitch: 2mm; Supplier 1: Digi-Key; Manufacturer: Samtec; Manufacturer Part Number: TMM-102-02-T-D; RoHS: Yes; Category: Connectors; Stock 1: 996; Pricing 1: 1=0.36000 (USD); Mount: Through Hole; Contact Plating: Tin; Contact Material: Bronze; Packaging: Bulk; Number of Rows: 2; Termination: Solder; Radiation Hardening: No; Lead Free: Lead Free; REACH SVHC: No SVHC; ComponentLink1URL: http://www.farnell.com/datasheets/2047777.pdf?src-supplier=Farnell; ComponentLink1Description: http://www.farnell.com/datasheets/2047777.pdf?src-supplier=Farnell; ComponentLink2URL: ftp://ftp.samtec.com/webfiles/PDF/TMM_TH.PDF?src-supplier=Avnet; ComponentLink2Description: ftp://ftp.samtec.com/webfiles/PDF/TMM_TH.PDF?src-supplier=Avnet; Supplier Part Number 1: TMM-102-02-T-D-ND; Supplier 2: Avnet; Pricing 2: 1=0.23415, 10=0.22032, 30=0.21456, 50=0.20448, 100=0.19584 (USD); Supplier 3: Newark; Pricing 3: 1=0.35600, 10=0.33200, 25=0.28200, 50=0.24000, 100=0.23000, 250=0.20600, 500=0.19700 (USD); Supplier Part Number 2: TMM-102-02-T-D; Supplier Part Number 3: 85P1775
footprint TMM-102-02-T-D
pins: 1, 2, 3, 4

## TMM-105-01-G-S
designator P?  (value not drawn)
SAMTEC   TMM-105-01-G-S   Board-To-Board Connector, Single, TMM Series, Through Hole, Header, 5 Contacts, 2 mm; Number of Contacts: 5; Gender: Male; Connector Type: Male Pin; Max Current Rating: 3.9A; Max Voltage Rating (AC): 500V; Pitch: 2mm; Supplier 1: Digi-Key; Manufacturer: Samtec; Manufacturer Part Number: TMM-105-01-G-S; RoHS: Yes; Category: Headers and Wire Housings; Stock 1: 695; Pricing 1: 1=0.92000, 10=0.81100, 25=0.76320, 50=0.73140, 100=0.69960, 250=0.63600, 500=0.57240 (USD); Mount: Through Hole; Contact Plating: Gold; Contact Material: Bronze; Color: Black; Housing Color: Black; Housing Material: Polymer; Min Operating Temperature: -55°C; Max Operating Temperature: 125°C; Number of Rows: 1; Termination: Solder; Packaging: Bulk; Orientation: Straight; Number of Positions: 5; Package Quantity: 1; Current Rating: 3.9A; Voltage Rating: 500V; Length: 10mm; Depth: 1.97mm; Lead Pitch: 2mm; Contact Mating Length: 0.126inch; Radiation Hardening: No; REACH SVHC: No SVHC; ComponentLink1URL: https://datasheet.ciiva.com/25618/0900766b8115442c-25618461.pdf?src-supplier=RSComponents; ComponentLink1Description: https://datasheet.ciiva.com/25618/0900766b8115442c-25618461.pdf?src-supplier=RSComponents; Supplier Part Number 1: SAM1174-05-ND; Supplier 2: Mouser; Stock 2: 218; Pricing 2: 1=0.85000, 10=0.67600, 100=0.58800, 500=0.52900, 1000=0.47000, 2500=0.41100 (USD); Supplier 3: Farnell; Stock 3: 140; Pricing 3: 10=0.62400, 50=0.59900, 100=0.57200, 250=0.52000, 500=0.46800, 1500=0.45900 (GBP); Supplier Part Number 2: 200-TMM10501GS; Supplier Part Number 3: 1668534
footprint TMM-105-01-G-S
pins: 1, 2, 3, 4, 5

## TMM-105-03-G-S
designator P?  (value not drawn)
Conn Unshrouded Header HDR 5 POS 2mm Solder ST Thru-Hole Automotive; Manufacturer: Samtec; Number of Contacts: 5; Gender: Male; Connector Type: Male Pin; Max Voltage Rating (AC): 500V; Max Current Rating: 3.9A; Supplier 1: Digi-Key; Manufacturer Part Number: TMM-105-03-G-S; RoHS: Yes; Category: Connectors; Stock 1: 1700; Pricing 1: 1=0.85000, 10=0.75000, 100=0.64680, 500=0.52920, 1000=0.47040, 5000=0.41160, 10000=0.39102 (USD); Mount: Through Hole; Contact Plating: Gold; Housing Color: Black; Housing Material: Polymer; Color: Black; Contact Material: Bronze; Min Operating Temperature: -55°C; Max Operating Temperature: 125°C; Termination: Solder; Number of Rows: 1; Packaging: Rail/Tube; Number of Positions: 5; Orientation: Straight; Length: 10mm; Pitch: 2mm; Depth: 1.97mm; Contact Mating Length: 0.157inch; Radiation Hardening: No; Lead Free: Lead Free; ComponentLink1URL: https://datasheet.ciiva.com/726/tmm-1xx-xx-xx-x-xx-xxx-mkt1-726532.pdf?src-supplier=Digi-Key; ComponentLink1Description: https://datasheet.ciiva.com/726/tmm-1xx-xx-xx-x-xx-xxx-mkt1-726532.pdf?src-supplier=Digi-Key; Supplier Part Number 1: SAM15859-ND; Supplier 2: Mouser; Stock 2: 12; Pricing 2: 1=0.85000, 10=0.67600, 100=0.58800, 500=0.52900, 1000=0.47000, 2500=0.41100 (USD); Supplier 3: Avnet; Pricing 3: 1=0.70569, 10=0.66402, 30=0.64666, 50=0.61628, 100=0.59024 (USD); Supplier Part Number 2: 200-TMM10503GS; Supplier Part Number 3: TMM-105-03-G-S
footprint TMM-105-03-G-S
pins: 1, 2, 3, 4, 5

## TMS-113-02-G-S
designator P?
HEADER, 1.27MM, THOUGH HOLE VERTICAL, 13 POSITION; Product Range:TMS Series; Contact Termination Type:Through Hole; Gender:Header; No. of Contacts:13; Pitch Spacing:1.27mm; Contact Plating:Gold Plated Contacts; No. of Rows:1 ;RoHS Compliant: Yes; Manufacturer: Samtec; Gender: Male; Number of Contacts: 13; Manufacturer Part Number: TMS-113-02-G-S; RoHS: Yes; Category: Connectors; Pricing 1: 1=1,47480, 10=1,38771, 30=1,35143, 50=1,28794, 100=1,23352 (USD); Contact Plating: Gold; Contact Material: Bronze; Housing Color: Black; Housing Material: Polymer; Min Operating Temperature: -55°C; Max Operating Temperature: 125°C; Number of Rows: 1; Termination: Solder; Packaging: Rail/Tube; Orientation: Straight; Length: 16.51mm; Pitch: 1.27mm; Depth: 2.48mm; REACH SVHC: No SVHC; ComponentLink1URL: http://www.farnell.com/datasheets/1992060.pdf?src-supplier=Farnell; ComponentLink1Description: http://www.farnell.com/datasheets/1992060.pdf?src-supplier=Farnell; ComponentLink2URL: http://components.arrow.com/part/dataview/0323_04251067?src-supplier=Arrow+Europe; ComponentLink2Description: http://components.arrow.com/part/dataview/0323_04251067?src-supplier=Arrow+Europe; ComponentLink3URL: http://cloud.samtec.com/catalog_english/HTMS_TH.PDF?src-supplier=Avnet; ComponentLink3Description: http://cloud.samtec.com/catalog_english/HTMS_TH.PDF?src-supplier=Avnet; Supplier 1: Avnet; Supplier 2: Digi-Key; Supplier 3: Farnell; Supplier 4: Newark; Supplier 5: Mouser; Supplier Part Number 5: 200-TMS11302GS; Supplier Part Number 4: 85AC2256; Supplier Part Number 3: 2984495; Supplier Part Number 2: TMS-113-02-G-S-ND; Supplier Part Number 1: TMS-113-02-G-S
footprint TMS-113-02-G-S
pins: 1, 2, 3, 4, 5, 6, 7, 8, 9, 10, 11, 12, 13

## TSW-101-07-F-S
designator P?  (value not drawn)
In a Pack of 50, Samtec TSW, 1 Way, 1 Row, Straight PCB Header; Number of Contacts: 1; Gender: Male; System: Connector; Supplier 1: Digi-Key; Manufacturer: Samtec; Manufacturer Part Number: TSW-101-07-F-S; RoHS: Yes; Category: Connectors; Stock 1: 2331; Pricing 1: 1=0.13000, 10=0.11800, 100=0.07250, 500=0.06000, 1000=0.05250, 5000=0.04500, 10000=0.04375 (USD); Mount: Through Hole; Contact Material: Bronze; Contact Plating: Gold; Termination: Solder; Packaging: Bulk; Number of Rows: 1; Radiation Hardening: No; REACH SVHC: No SVHC; ComponentLink1URL: https://datasheet.ciiva.com/10337/htsw-th-10337052.pdf?src-supplier=Avnet; ComponentLink1Description: https://datasheet.ciiva.com/10337/htsw-th-10337052.pdf?src-supplier=Avnet; Supplier Part Number 1: SAM10323-ND; Supplier 2: Mouser; Stock 2: 10380; Pricing 2: 1=0.12000, 10=0.07500, 100=0.05900, 1000=0.04500, 2500=0.04000, 10000=0.03600 (USD); Supplier 3: Newark; Stock 3: 5958; Pricing 3: 1=0.02800, 10=0.02800, 25=0.02800, 50=0.02800, 100=0.02800, 250=0.02800, 500=0.02800 (USD); Supplier Part Number 2: 200-TSW10107FS; Supplier Part Number 3: 79P2689
footprint TSW-101-07-F-S
pins: 1

## TSW-101-14-G-S
designator P?  (value not drawn)
SAMTEC         TSW-101-14-G-S             Board-To-Board Connector, Vertical, TSW Series, 1 Contacts, Header, 2.54 mm, Through Hole, 1 Rows; Connector Type: Male Pin; Max Voltage Rating (AC): 550V; Max Current Rating: 7.6A; Number of Positions: 1; Gender: Male; Supplier 1: Mouser; Manufacturer: Samtec; Manufacturer Part Number: TSW-101-14-G-S; RoHS: Yes; Category: Connectors; Stock 1: 10160; Pricing 1: 1=0.18000, 10=0.10800, 100=0.08600, 1000=0.06500, 2500=0.05900, 10000=0.05200 (USD); Mount: Through Hole; Housing Material: Polyester; Contact Plating: Gold; Contact Material: Bronze; Color: Black; Housing Color: Black; Min Operating Temperature: -55°C; Max Operating Temperature: 125°C; Number of Rows: 1; Packaging: Bulk; Package Quantity: 1; Orientation: Straight; Termination: Solder; Number of Contacts: 1; Length: 2.54mm; Contact Mating Length: 0.32inch; Depth: 2.54mm; Width: 2.54mm; Radiation Hardening: No; REACH SVHC: No SVHC; Lead Free: Lead Free; ComponentLink1URL: https://datasheet.ciiva.com/16736/htsw-th-16736489.pdf?src-supplier=Avnet+Europe; ComponentLink1Description: https://datasheet.ciiva.com/16736/htsw-th-16736489.pdf?src-supplier=Avnet+Europe; ComponentLink2URL: https://datasheet.ciiva.com/10337/htsw-th-10337082.pdf?src-supplier=Avnet; ComponentLink2Description: https://datasheet.ciiva.com/10337/htsw-th-10337082.pdf?src-supplier=Avnet; ComponentLink3URL: https://datasheet.ciiva.com/6889/tsw-xxx-xx-xxx-x-xx-xxx-mkt-6889964.pdf?src-supplier=Digi-Key; ComponentLink3Description: https://datasheet.ciiva.com/6889/tsw-xxx-xx-xxx-x-xx-xxx-mkt-6889964.pdf?src-supplier=Digi-Key; Supplier Part Number 1: 200-TSW10114GS; Supplier 2: Digi-Key; Stock 2: 2487; Pricing 2: 1=0.17000, 10=0.16400, 25=0.12200, 50=0.10440, 100=0.10090, 250=0.08700, 500=0.08352 (USD); Supplier 3: Newark; Stock 3: 4; Pricing 3: 1=0.04000, 10=0.04000, 25=0.04000, 50=0.04000, 100=0.04000, 250=0.04000, 500=0.04000 (USD); Supplier Part Number 2: SAM1053-01-ND; Supplier Part Number 3: 12P1213
footprint TSW-101-14-G-S
pins: 1

## TSW-101-15-G-S
designator P?  (value not drawn)
Conn Unshrouded Header HDR 1 POS Solder ST Thru-Hole; Manufacturer: Samtec; Gender: Male; Max Current Rating: 7.6A; Max Voltage Rating (AC): 550V; Number of Contacts: 1; Supplier 1: Digi-Key; Manufacturer Part Number: TSW-101-15-G-S; RoHS: Yes; Category: Connectors; Stock 1: 1116; Pricing 1: 1=0.16000 (USD); Mount: Through Hole; Housing Material: Polyester; Housing Color: Black; Contact Material: Bronze; Contact Plating: Gold; Min Operating Temperature: -55°C; Max Operating Temperature: 125°C; Orientation: Straight; Number of Rows: 1; Packaging: Bulk; Termination: Solder; Length: 2.54mm; Depth: 2.54mm; Radiation Hardening: No; REACH SVHC: No SVHC; ComponentLink1URL: https://datasheet.ciiva.com/16736/htsw-th-16736491.pdf?src-supplier=Avnet+Europe; ComponentLink1Description: https://datasheet.ciiva.com/16736/htsw-th-16736491.pdf?src-supplier=Avnet+Europe; ComponentLink2URL: https://datasheet.ciiva.com/10337/htsw-th-10337087.pdf?src-supplier=Avnet; ComponentLink2Description: https://datasheet.ciiva.com/10337/htsw-th-10337087.pdf?src-supplier=Avnet; Supplier Part Number 1: TSW-101-15-G-S-ND; Supplier 2: Arrow; Stock 2: 103; Pricing 2: 1=0.07070 (USD); Supplier 3: Mouser; Stock 3: 1578; Pricing 3: 1=0.16000, 10=0.11400, 100=0.09000, 1000=0.07300, 2500=0.06500, 10000=0.05900 (USD); Supplier Part Number 2: TSW-101-15-G-S; Supplier Part Number 3: 200-TSW10115GS
footprint TSW-101-15-G-S
pins: 1

## TSW-101-18-S-S
designator P?  (value not drawn)
Conn Unshrouded Header HDR 1 POS Solder ST Thru-Hole; Manufacturer: Samtec; Max Voltage Rating (AC): 550V; Max Current Rating: 7.6A; Number of Contacts: 1; Gender: Male; Supplier 1: Digi-Key; Manufacturer Part Number: TSW-101-18-S-S; RoHS: Yes; Category: Connectors; Stock 1: 786; Pricing 1: 1=0.24000 (USD); Mount: Through Hole; Contact Plating: Gold; Min Operating Temperature: -55°C; Max Operating Temperature: 125°C; Packaging: Bulk; Number of Rows: 1; Termination: Solder; Orientation: Straight; Radiation Hardening: No; ComponentLink1URL: https://datasheet.ciiva.com/10337/htsw-th-10337111.pdf?src-supplier=Avnet; ComponentLink1Description: https://datasheet.ciiva.com/10337/htsw-th-10337111.pdf?src-supplier=Avnet; ComponentLink2URL: https://datasheet.ciiva.com/36535/38htsw-th-36535306.pdf?src-supplier=Onlinecomponents.com; ComponentLink2Description: https://datasheet.ciiva.com/36535/38htsw-th-36535306.pdf?src-supplier=Onlinecomponents.com; Supplier Part Number 1: TSW-101-18-S-S-ND; Supplier 2: Avnet; Pricing 2: 1=0.14146, 10=0.13311, 30=0.12963, 50=0.12354, 100=0.11832 (USD); Supplier 3: Newark; Pricing 3: 1=0.23100, 10=0.21500, 25=0.18200, 50=0.15900, 100=0.14700, 250=0.13000, 500=0.12400 (USD); Supplier Part Number 2: TSW-101-18-S-S; Supplier Part Number 3: 79P2924
footprint TSW-101-18-S-S (Alojamientos de cables y cabecera .100" Terminal Strip)
pins: 1

## TSW-101-24-T-S
designator P?  (value not drawn)
CONN HEADER 1POS .100" SNGL; Manufacturer: Samtec; Number of Contacts: 1; Gender: Male; Connector Type: Male Pin; System: Connector; Supplier 1: Digi-Key; Manufacturer Part Number: TSW-101-24-T-S; RoHS: Yes; Category: Connectors; Stock 1: 1116; Pricing 1: 1=0.11000 (USD); Mount: Through Hole; Contact Plating: Tin; Contact Material: Bronze; Color: Black; Number of Rows: 1; Packaging: Rail/Tube; Termination: Solder; Number of Positions: 1; Contact Mating Length: 0.265inch; Radiation Hardening: No; REACH SVHC: No SVHC; ComponentLink1URL: https://datasheet.ciiva.com/10337/htsw-th-10337189.pdf?src-supplier=Avnet; ComponentLink1Description: https://datasheet.ciiva.com/10337/htsw-th-10337189.pdf?src-supplier=Avnet; ComponentLink2URL: https://datasheet.ciiva.com/739/tsw-xxx-xx-xxx-x-xx-xxx-mkt-739878.pdf?src-supplier=Digi-Key; ComponentLink2Description: https://datasheet.ciiva.com/739/tsw-xxx-xx-xxx-x-xx-xxx-mkt-739878.pdf?src-supplier=Digi-Key; Supplier Part Number 1: TSW-101-24-T-S-ND; Supplier 2: Avnet; Pricing 2: 1=0.04878, 10=0.04590, 30=0.04470, 50=0.04260, 100=0.04080 (USD); Supplier 3: Newark; Pricing 3: 1=0.10100, 10=0.09600, 25=0.07100, 50=0.06100, 100=0.05900, 250=0.05100, 500=0.04900 (USD); Supplier Part Number 2: TSW-101-24-T-S; Supplier Part Number 3: 79P3012
footprint TSW-101-24-T-S
pins: 1